# Altium footprint library 1-1337542-0.PcbLib: 1 footprints
Each footprint in its own frame and in the unit in brackets; x right, y up, seen from the top. Pads: shape width x height; smd on the part's side, far side on the other; paste and mask are expansions set on the pad; w line width, h text height; cw(c..) or ccw(c..) is an arc to the next point about the centre after c.
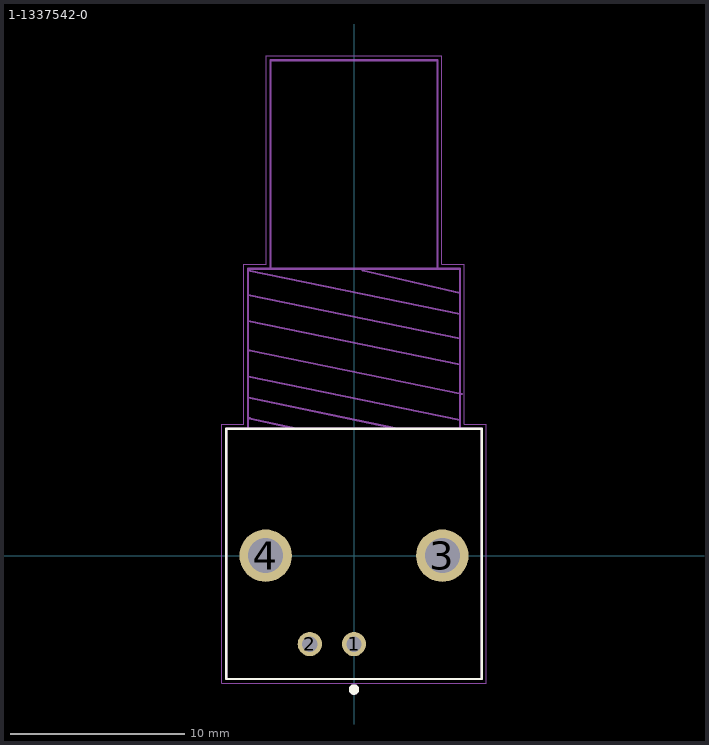
[diagram p0: the footprint, top view; thin cyan lines are the x and y axes]

## 1-1337542-0 [mm]
pads (4):
  round 1.398 hole 0.89: 1(0,-5.08) 2(-2.54,-5.08)
  round 3.015 hole 2.01: 3(5.08,0) 4(-5.08,0)
Top Overlay:
  circle w0.3: c0,-7.7 r0.15
  lines w0.127: -7.35,-7.1 -7.35,7.3 -6.1,7.3 6.1,7.3 7.35,7.3 7.35,-7.1 -7.35,-7.1
Top Assembly:
  circle w0.3: c0,-7.7 r0.15
  circle w0.3: c0,-7.7 r0.15
  lines w0.127: -7.35,-7.1 -7.35,7.3 ; -7.35,-7.1 -7.35,7.3 ; -7.35,-7.1 7.35,-7.1 ; -7.35,-7.1 7.35,-7.1 ; -7.35,7.3 -3.3,7.3 ; -7.35,7.3 -3.3,7.3 ; -6.1,16.5 -4.8,16.5 ; -6.1,16.5 -4.8,16.5 ; -6.1,16.5 -6.1,7.3 -6.1,16.5 ; -4.8,16.5 -4.8,28.5 ; -4.8,16.5 -4.8,28.5 ; -4.8,16.5 4.8,16.5 ; -4.8,16.5 4.8,16.5 ; -4.8,28.5 4.8,28.5 ; -4.8,28.5 4.8,28.5 ; -3.3,7.3 -6,7.9 -3.3,7.3 ; -3.3,7.3 2.5,7.3 ; -3.3,7.3 2.5,7.3 ; 2.5,7.3 -6.1,9.1 2.5,7.3 ; 2.5,7.3 7.35,7.3 ; 2.5,7.3 7.35,7.3 ; 4.8,16.5 4.8,28.5 ; 4.8,16.5 4.8,28.5 ; 4.8,16.5 6.1,16.5 ; 4.8,16.5 6.1,16.5 ; 6.1,16.5 6.1,7.3 6.1,16.5 ; 7.35,-7.1 7.35,7.3 ; 7.35,-7.1 7.35,7.3 ; -6.1,10.3 6.1,7.8 -6.1,10.3 ; -6.1,13.5 6.1,11 -6.1,13.5 ; -6.1,15 6.1,12.5 -6.1,15 ; -6.1,16.4 6.1,13.9 -6.1,16.4 ; -6,11.8 6.2,9.3 -6,11.8 ; 0.5,16.4 6.1,15.1 0.5,16.4
Top Courtyard:
  lines w0.05: -7.6,-7.35 -7.6,7.55 -6.35,7.55 -6.35,16.75 -5.05,16.75 -5.05,28.75 5.05,28.75 5.05,16.75 6.35,16.75 6.35,7.55 7.6,7.55 7.6,-7.35 -7.6,-7.35
3D body "c-1-1337542-0-e-3d.stp": height 13.16, standoff -4.3, extent -7.35,-7.112 7.35,28.388